# Altium footprint library PCB - Leaded - PSON105P320X250X90-6N.PCBLIB: 1 footprints
Each footprint in its own frame and in the unit in brackets; x right, y up, seen from the top. Pads: shape width x height; smd on the part's side, far side on the other; paste and mask are expansions set on the pad; w line width, h text height; cw(c..) or ccw(c..) is an arc to the next point about the centre after c.
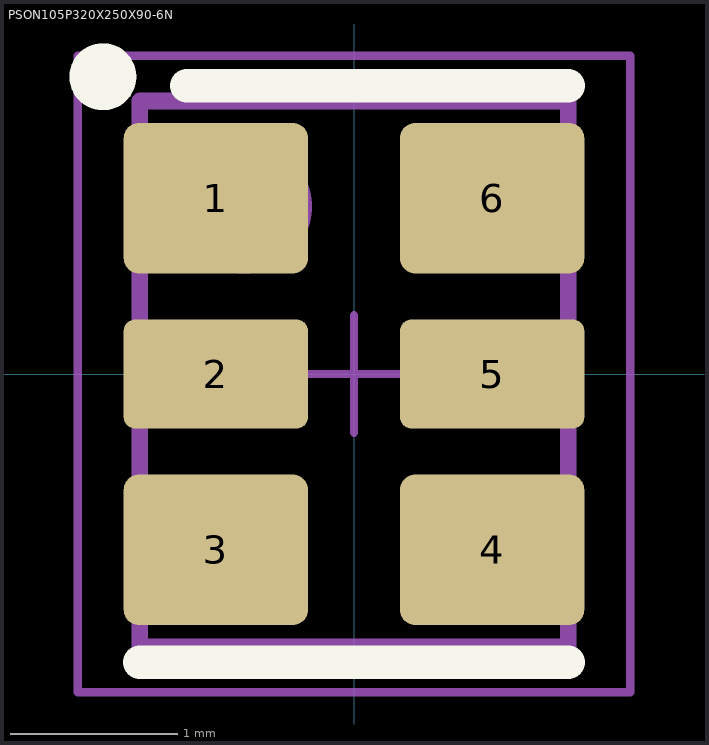
[diagram p0: the footprint, top view; thin cyan lines are the x and y axes]

## PSON105P320X250X90-6N [mm]
pads (6):
  rrect20% 1.1x0.9 smd: 1(-0.825,1.05) 3(-0.825,-1.05) 4(0.825,-1.05) 6(0.825,1.05)
  rrect20% 1.1x0.65 smd: 2(-0.825,0) 5(0.825,0)
Top Overlay:
  circle w0.2: c-1.5,1.775 r0.1
  lines w0.2: -1.28,-1.72 1.28,-1.72 ; -1,1.72 1.28,1.72
Top Assembly:
  circle w0.4: c-0.65,1 r0.2
  lines w0.025: -1.25,-1.6 1.25,-1.6 1.25,1.6 -1.25,1.6 -1.25,-1.6
  lines w0.1: -1.28,-1.63 1.28,-1.63 1.28,1.63 -1.28,1.63 -1.28,-1.63
Top Courtyard:
  lines w0.05: -1.65,-1.9 1.65,-1.9 1.65,1.9 -1.65,1.9 -1.65,-1.9
Top Designator:
  text ".Designator" at -2.2,2.2 h0.5
Top Component Center:
  lines w0.05: -0.35,0 0.35,0 ; 0,-0.35 0,0.35
3D body: height 0.9, standoff 0, extent -1.28,-1.63 1.28,1.63